# Altium schematic symbol library Resistor.SchLib: 8 symbols
Pins are listed as number, name and electrical type; pins without a type are passive.

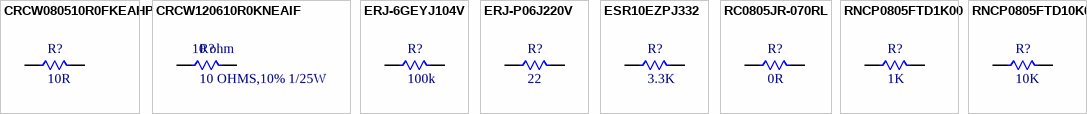
[diagram p0: symbols CRCW080510R0FKEAHP to RNCP0805FTD10K0]

## CRCW080510R0FKEAHP
designator R?, comment 10R
RES SMD 0805, 10 OHM 1% 1/3W; Manufacturer: Vishay; Manufacturer Part Number: CRCW080510R0FKEAHP; Max Power Dissipation: 333mW; Power Rating: 330mW; Voltage Rating: 150V; Temperature Coefficient: 100ppm/°C; Supplier 1: Mouser; Supplier Part Number 1: 71-CRCW080510R0FKEAH; RoHS: Yes; Category: Chip SMD Resistors; Stock 1: 690923; Pricing 1: 1=0,19, 10=0,103, 50=0,103, 100=0,046, 1000=0,026, 10000=0,022 (USD); Case/Package: 0805; Weight: 0.000194oz; Case Code (Imperial): 0805; Case Code (Metric): 2012; Contact Plating: Tin; Min Operating Temperature: -55°C; Max Operating Temperature: 155°C; Packaging: Tape and Reel; Package Quantity: 5000; Series: CRCW-HP; Value: 10R; Tolerance: 1%; Resistor Type: Thick Film; Termination: SMD/SMT; Voltage Rating (DC): 150V; Features: Automotive AEC-Q200; Number of Terminations: 2; Resistance Tolerance: 1%; Technology: THICK FILM; Construction: Rectangular; Length: 2mm; Width: 1.2mm; Height: 0.5mm; Depth: 1.25mm; Ratings: AEC-Q200; Radiation Hardening: No; RoHS Compliant: Yes; Military Standard: Not; Lead Free: Lead Free; Reach SVHC Compliant: Unknown; ComponentLink1URL: https://datasheet.ciiva.com/5549/crcwhpe3-46056-5549342.pdf?src-supplier=Mouser; ComponentLink1Description: https://datasheet.ciiva.com/5549/crcwhpe3-46056-5549342.pdf?src-supplier=Mouser; ComponentLink2URL: https://datasheet.ciiva.com/22673/1885357-22673082.pdf?src-supplier=Element14; ComponentLink2Description: https://datasheet.ciiva.com/22673/1885357-22673082.pdf?src-supplier=Element14; ComponentLink3URL: https://datasheet.ciiva.com/22673/1885357-22673083.pdf?src-supplier=Element14; ComponentLink3Description: https://datasheet.ciiva.com/22673/1885357-22673083.pdf?src-supplier=Element14; Supplier 2: Digi-Key; Supplier 3: Digi-Key; Supplier Part Number 2: 541-10.0TCT-ND; Supplier Part Number 3: 541-10.0TDKR-ND
footprint 0805-RES
pins: 1, 2

## CRCW120610R0KNEAIF
designator R?, comment 10 OHMS,10% 1/25W  Resistance: 10 ohm
10 OHMS,10% 1/25W / RESISTOR IDEAL PARA A ANTENA ATIVA DO NEO M9N; ComponentLink1Description: Mouser; ComponentLink1URL: https://br.mouser.com/ProductDetail/Vishay-Dale/CRCW120610R0KNEAIF?qs=y5m63dMNjquAOz7xDbETPQ%3D%3D
footprint CRCW120610R0KNEAIF
pins: 1, 2

## ERJ-6GEYJ104V
designator R?, comment 100k
RES SMD 0805, 100K OHM 5% 1/8W; Manufacturer: Panasonic; Manufacturer Part Number: ERJ-6GEYJ104V; Resistance: 100kR; Power Rating: 125mW; Voltage Rating: 150V; Temperature Coefficient: 200ppm/°C; Supplier 2: Digi-Key; Stock 1: 1160981; Pricing 1: 1 = 0,10000, 10 = 0,06100, 100 = 0,02490, 1000 = 0,01120, 2500 = 0,00972 (USD); RoHS: Yes; Mount: Surface Mount; Case/Package: 0805; Weight: 0.000194oz; Case Code (Metric): 2012; Case Code (Imperial): 0805; Contact Plating: Tin; Min Operating Temperature: -55°C; Max Operating Temperature: 155°C; Tolerance: 5%; Packaging: Tape and Reel; Composition: Thick Film; Package Quantity: 5000; Number of Terminations: 2; Termination: SMD/SMT; Max Power Dissipation: 125mW; Features: Automotive AEC-Q200; Military Standard: Not; Voltage Rating (DC): 150V; Length: 2mm; Height: 0.6mm; Width: 0.049inch; Depth: 1.25mm; Radiation Hardening: No; Lead Free: Lead Free; REACH SVHC: No SVHC; ComponentLink1URL: https://datasheet.ciiva.com/11821/0900766b80f806dd-11821506.pdf?src-supplier=RSComponents; ComponentLink1Description: https://datasheet.ciiva.com/11821/0900766b80f806dd-11821506.pdf?src-supplier=RSComponents; ComponentLink2URL: https://datasheet.ciiva.com/34303/2007290-34303759.pdf?src-supplier=Jameco; ComponentLink2Description: https://datasheet.ciiva.com/34303/2007290-34303759.pdf?src-supplier=Jameco; ComponentLink3URL: https://datasheet.ciiva.com/16771/70255313-16771462.pdf?src-supplier=Allied+Electronics; ComponentLink3Description: https://datasheet.ciiva.com/16771/70255313-16771462.pdf?src-supplier=Allied+Electronics; ComponentLink4URL: https://datasheet.ciiva.com/43460/1500035-43460136.pdf?src-supplier=Farnell; ComponentLink4Description: https://datasheet.ciiva.com/43460/1500035-43460136.pdf?src-supplier=Farnell; ComponentLink5URL: https://datasheet.ciiva.com/22758/1500035-22758234.pdf?src-supplier=Farnell; ComponentLink5Description: https://datasheet.ciiva.com/22758/1500035-22758234.pdf?src-supplier=Farnell; ComponentLink6URL: https://datasheet.ciiva.com/17208/aoa0000ce1-17208156.pdf?src-supplier=Avnet+Europe; ComponentLink6Description: https://datasheet.ciiva.com/17208/aoa0000ce1-17208156.pdf?src-supplier=Avnet+Europe; ComponentLink7URL: https://datasheet.ciiva.com/30137/4aoa0000ce1-30137389.pdf?src-supplier=Onlinecomponents.com; ComponentLink7Description: https://datasheet.ciiva.com/30137/4aoa0000ce1-30137389.pdf?src-supplier=Onlinecomponents.com; ComponentLink8URL: https://datasheet.ciiva.com/9117/aoa0000ce1-9117374.pdf?src-supplier=Avnet; ComponentLink8Description: https://datasheet.ciiva.com/9117/aoa0000ce1-9117374.pdf?src-supplier=Avnet; ComponentLink9URL: https://datasheet.ciiva.com/46380/1500035-46380511.pdf?src-supplier=Element14; ComponentLink9Description: https://datasheet.ciiva.com/46380/1500035-46380511.pdf?src-supplier=Element14; Supplier Part Number 2: P100KACT-ND; Supplier 1: Mouser; Supplier Part Number 1: 667-ERJ-6GEYJ104V; Supplier 3: Digi-Key; Supplier Part Number 3: P100KADKR-ND
footprint 0805-RES
pins: 1, 2

## ERJ-P06J220V
designator R?, comment 22
RES SMD 0805, 22 OHM 5% 1/4W; Manufacturer: Panasonic; Manufacturer Part Number: ERJ-P06J220V; Value: 22R; Temperature Coefficient: 300ppm/°C; Power Rating: 500mW; Voltage Rating: 150V; Supplier 1: Mouser; RoHS: Yes; Category: Chip SMD Resistors; Stock 1: 62638; Pricing 1: 1=0,11, 10=0,056, 50=0,056, 100=0,025, 1000=0,018, 5000=0,014, 10000=0,013, 25000=0,011, 50000=0,01 (USD); Mounting Technology: Surface Mount; Case/Package: 0805; Contact Plating: Tin; Case Code (Metric): 2012; Case Code (Imperial): 0805; Min Operating Temperature: -55°C; Max Operating Temperature: 155°C; Tolerance: 5%; Packaging: Tape and Reel; Package Quantity: 1; Number of Terminations: 2; Max Power Dissipation: 500mW; Voltage Rating (DC): 150V; Features: Automotive AEC-Q200; Series: ERJ; Length: 0.079inch; Width: 1.2mm; Height: 0.028inch; Lead Free: Lead Free; RoHS Compliant: Yes; ComponentLink1URL: https://datasheet.ciiva.com/9191/aoa0000ce4-9191918.pdf?src-supplier=Avnet; ComponentLink1Description: https://datasheet.ciiva.com/9191/aoa0000ce4-9191918.pdf?src-supplier=Avnet; ComponentLink2URL: https://datasheet.ciiva.com/30188/aoa0000ce4-30188085.pdf?src-supplier=Onlinecomponents.com; ComponentLink2Description: https://datasheet.ciiva.com/30188/aoa0000ce4-30188085.pdf?src-supplier=Onlinecomponents.com; Supplier 2: Digi-Key; Stock 2: 967; Pricing 2: 1=0,11, 10=0,095, 50=0,051, 100=0,0364, 500=0,02254, 1000=0,016 (USD); Supplier 3: Digi-Key; Stock 3: 967; Pricing 3: 1=0,11, 10=0,095, 50=0,051, 100=0,0364, 500=0,02254, 1000=0,016 (USD); Supplier Part Number 2: P22ADCT-ND; Supplier Part Number 3: P22ADDKR-ND; Supplier Part Number 1: 667-ERJ-P06J220V
footprint 0805-RES
pins: 1, 2

## ESR10EZPJ332
designator R?, comment 3.3K
RES SMD 0805, 3.3K OHM 5% 0.4W; Manufacturer: Rohm; Manufacturer Part Number: ESR10EZPJ332; Value: 3.3kR; Temperature Coefficient: 200ppm/°C; Max Power Dissipation: 400mW; Supplier 1: Mouser; RoHS: Yes; Category: Chip SMD Resistors; Stock 1: 15240; Pricing 1: 1=0,13, 10=0,064, 50=0,064, 100=0,029, 1000=0,02, 10000=0,013 (USD); Case/Package: 0805; Case Code (Metric): 2012; Case Code (Imperial): 0805; Min Operating Temperature: -55°C; Max Operating Temperature: 155°C; Tolerance: 5%; Packaging: Cut Tape; Number of Terminations: 2; Features: Automotive AEC-Q200; Series: ESR; Ratings: AEC-Q200; RoHS Compliant: Yes; ComponentLink1URL: https://datasheet.ciiva.com/2515/esr-2515908.pdf?src-supplier=Digi-Key; ComponentLink1Description: https://datasheet.ciiva.com/2515/esr-2515908.pdf?src-supplier=Digi-Key; ComponentLink2URL: https://datasheet.ciiva.com/2515/esr-2515909.pdf?src-supplier=Digi-Key; ComponentLink2Description: https://datasheet.ciiva.com/2515/esr-2515909.pdf?src-supplier=Digi-Key; ComponentLink3URL: https://datasheet.ciiva.com/2515/esr-2515910.pdf?src-supplier=Digi-Key; ComponentLink3Description: https://datasheet.ciiva.com/2515/esr-2515910.pdf?src-supplier=Digi-Key; Supplier 2: Digi-Key; Supplier 3: Digi-Key; Supplier Part Number 1: 755-ESR10EZPJ332; Supplier Part Number 2: RHM3.3KKDKR-ND; Supplier Part Number 3: RHM3.3KKCT-ND
footprint 0805-RES
pins: 1, 2

## RC0805JR-070RL
designator R?, comment 0R
RES SMD 0805, 0 OHM JUMPER 1/8W; Manufacturer 1: Yageo; Manufacturer Part Number: RC0805JR-070RL; Description 1: YAGEO         RC0805JR-070RL             RES, THICK FILM, 0R, 0.125W, 0805; Resistance: 0mR; Tolerance: 5%; Power Rating: 125mW; Voltage Rating: 150V; Temperature Coefficient: 200ppm/°C; Supplier 2: Digi-Key; Supplier Part Number 2: 311-0.0ARCT-ND; Stock 1: 18575448; Pricing 1: 1=0.1, 10=0.037, 25=0.0272, 50=0.0206, 100=0.0153, 250=0.01164, 500=0.0093, 1000=0.00685 (USD); Case/Package: 0805; Number of Pins: 2; Contact Plating: Matte,Tin; Case Code (Imperial): 0805; Case Code (Metric): 2012; Min Operating Temperature: -55°C; Max Operating Temperature: 155°C; Composition: Thick Film; Packaging: Tape and Reel; Voltage Rating (DC): 150V; Termination: SMD/SMT; Military Standard: Not; Length: 2mm; Height: 0.5mm; Width: 1.25mm; Depth: 1.25mm; Radiation Hardening: No; REACH SVHC: Unknown; Lead Free: Lead Free; ComponentLink1URL: http://www.farnell.com/datasheets/1738694.pdf; ComponentLink1Description: http://www.farnell.com/datasheets/1738694.pdf; ComponentLink2URL: http://documents.rs-components.com/techlib://itc_doclist_GB.htm?stockno=6185129; ComponentLink2Description: http://documents.rs-components.com/techlib://itc_doclist_GB.htm?stockno=6185129; ComponentLink3URL: https://www.verical.com/server-webapp/html/getDatasheet?partID=330685; ComponentLink3Description: https://www.verical.com/server-webapp/html/getDatasheet?partID=330685; Supplier 1: Mouser; Supplier Part Number 1: 603-RC0805JR-070RL; Supplier 3: Digi-Key; Supplier Part Number 3: 311-0.0ARDKR-ND
footprint 0805-RES
pins: 1, 2

## RNCP0805FTD1K00
designator R?, comment 1K
Res Thin Film 0805 1K Ohm 1% 0.25W(1/4W) ±100ppm/C Sulfur Resistant Pad SMD T/R; Manufacturer: Stackpole Electronics; Manufacturer Part Number: RNCP0805FTD1K00; Value: 1kR; Power Rating: 250mW; Temperature Coefficient: 100ppm/°C; Supplier 1: Mouser; RoHS: Yes; Category: Chip SMD Resistors; Stock 1: 70653; Pricing 1: 1=0,1, 10=0,069, 50=0,069, 100=0,029, 1000=0,013, 10000=0,007 (USD); Mounting Technology: Surface Mount; Case/Package: 0805; Case Code (Metric): 2012; Case Code (Imperial): 0805; Min Operating Temperature: -55°C; Max Operating Temperature: 155°C; Tolerance: 1%; Packaging: Cut Tape; Number of Terminations: 2; Max Power Dissipation: 250mW; Features: Moisture Resistant,Anti-Sulfur; Series: RNCP; Length: 0.079inch; Width: 0.049inch; Height: 0.024inch; Lead Free: Lead Free; RoHS Compliant: Yes; ComponentLink1URL: http://www.seielect.com/Catalog/SEI-rncp.pdf?src-supplier=Future+Electronics; ComponentLink1Description: http://www.seielect.com/Catalog/SEI-rncp.pdf?src-supplier=Future+Electronics; ComponentLink2URL: https://www.seielect.com/catalog/SEI-Packaging.pdf?src-supplier=Digi-Key; ComponentLink2Description: https://www.seielect.com/catalog/SEI-Packaging.pdf?src-supplier=Digi-Key; ComponentLink3URL: https://www.seielect.com/Catalog/SEI-rncp.pdf?src-supplier=Digi-Key; ComponentLink3Description: https://www.seielect.com/Catalog/SEI-rncp.pdf?src-supplier=Digi-Key; Supplier Part Number 1: 708-RNCP0805FTD1K00; Supplier 2: Digi-Key; Supplier 3: Digi-Key; Supplier Part Number 2: RNCP0805FTD1K00CT-ND; Supplier Part Number 3: RNCP0805FTD1K00DKR-ND
footprint 0805-RES
pins: 1, 2

## RNCP0805FTD10K0
designator R?, comment 10K
Res Thin Film 0805 10K Ohm 1% 1/4W ±100ppm/°C Molded SMD Paper T/R; Manufacturer: Stackpole Electronics; Manufacturer Part Number: RNCP0805FTD10K0; Value: 10kR; Max Power Dissipation: 250mW; Supplier 1: Mouser; RoHS: Yes; Category: Chip SMD Resistors; Stock 1: 197654; Pricing 1: 1=0,1, 10=0,069, 50=0,069, 100=0,029, 1000=0,013, 10000=0,007 (USD); Mounting Technology: Surface Mount; Case/Package: 0805; Case Code (Metric): 2012; Case Code (Imperial): 0805; Min Operating Temperature: -55°C; Max Operating Temperature: 155°C; Tolerance: 1%; Packaging: Cut Tape; Number of Terminations: 2; Temperature Coefficient: 100ppm/°C; Features: Moisture Resistant,Anti-Sulfur; Series: RNCP; Length: 0.079inch; Width: 0.049inch; Height: 0.024inch; Lead Free: Lead Free; RoHS Compliant: Yes; ComponentLink1URL: https://datasheet.octopart.com/RNCP0805FTD10K0-Stackpole-Electronics-datasheet-33021030.pdf?src-supplier=Future+Electronics; ComponentLink1Description: https://datasheet.octopart.com/RNCP0805FTD10K0-Stackpole-Electronics-datasheet-33021030.pdf?src-supplier=Future+Electronics; ComponentLink2URL: https://www.seielect.com/catalog/SEI-Packaging.pdf?src-supplier=Digi-Key; ComponentLink2Description: https://www.seielect.com/catalog/SEI-Packaging.pdf?src-supplier=Digi-Key; Supplier Part Number 1: 708-RNCP0805FTD10K0; Supplier 2: Digi-Key; Supplier Part Number 2: RNCP0805FTD10K0CT-ND; Supplier 3: Digi-Key; Supplier Part Number 3: RNCP0805FTD10K0DKR-ND
footprint 0805-RES
pins: 1, 2